# Altium integrated library Gennum Filter Highpass.IntLib: 5 symbols
Pins are listed as number, name and electrical type; pins without a type are passive.

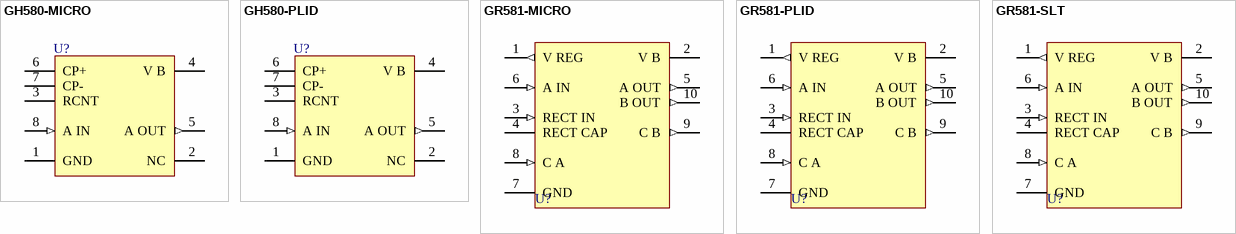
[diagram p0: symbols GH580-MICRO to GR581-SLT]

## GH580-MICRO
designator U?
Adjustable Analog Highpass Filter; Published: 8-Jun-2000; LatestRevisionDate: 04-Mar-2005; LatestRevisionNote: Stylized 3D Model Added.; DatasheetVersion: May-1998; PackageReference: MICRO8; Publisher: Altium Limited; PackageDescription: DFP; 8 Leads; Body 2.9 x 3.3 mm (LxW max); Pitch 0.635 mm; ComponentLink1Description: Manufacturer Link; ComponentLink1URL: http://www.gennum.com/index.html; ComponentLink2Description: Datasheet; ComponentLink2URL: http://www.gennum.com/hip/pdffiles/52050DOC.pdf
footprint MICRO8 (DFP; 8 Leads; Body 2.9 x 3.3 mm (LxW max); Pitch 0.635 mm)
3D model MICRO8 (DFP; 8 Leads; Body 2.9 x 3.3 mm (LxW max); Pitch 0.635 mm)
pins: 1 GND (power), 2 NC, 3 RCNT, 4 V B (power), 5 A OUT (out), 6 CP+, 7 CP-, 8 A IN (in)

## GH580-PLID
designator U?
Adjustable Analog Highpass Filter; Published: 8-Jun-2000; LatestRevisionDate: 17-Jul-2002; LatestRevisionNote: Re-released for DXP Platform.; DatasheetVersion: May-1998; PackageVersion: 1992; PackageReference: PLID8; Publisher: Altium Limited; PackageDescription: Small Outline; 8 C-Bend Leads; Body Width 3.2 mm; Pitch 0.635 mm; ComponentLink1Description: Manufacturer Link; ComponentLink1URL: http://www.gennum.com/index.html; ComponentLink2Description: Datasheet; ComponentLink2URL: http://www.gennum.com/hip/pdffiles/52050DOC.pdf
footprint PLID8 (Small Outline; 8 C-Bend Leads; Body Width 3.2 mm; Pitch 0.635 mm)
pins: 1 GND (power), 2 NC, 3 RCNT, 4 V B (power), 5 A OUT (out), 6 CP+, 7 CP-, 8 A IN (in)

## GR581-MICRO
designator U?
Adaptive Highpass Filter with Independent Gain Block; Published: 8-Jun-2000; LatestRevisionDate: 04-Mar-2005; LatestRevisionNote: Stylized 3D Model Added.; DatasheetVersion: Apr-1998; PackageReference: MICRO10; Publisher: Altium Limited; PackageDescription: DFP; 10 Leads; Body 3.6 x 3.3 mm (LxW max); Pitch 0.635 mm; ComponentLink1Description: Manufacturer Link; ComponentLink1URL: http://www.gennum.com/index.html; ComponentLink2Description: Datasheet; ComponentLink2URL: http://www.gennum.com/hip/pdffiles/52060DOC.pdf
footprint MICRO10 (DFP; 10 Leads; Body 3.6 x 3.3 mm (LxW max); Pitch 0.635 mm)
3D model MICRO10 (DFP; 10 Leads; Body 3.6 x 3.3 mm (LxW max); Pitch 0.635 mm)
pins: 1 V REG (out), 2 V B (power), 3 RECT IN (in), 4 RECT CAP, 5 A OUT (out), 6 A IN (in), 7 GND (power), 8 C A (in), 9 C B (out), 10 B OUT (out)

## GR581-PLID
designator U?
Adaptive Highpass Filter with Independent Gain Block; Published: 8-Jun-2000; LatestRevisionDate: 17-Jul-2002; LatestRevisionNote: Re-released for DXP Platform.; DatasheetVersion: Apr-1998; PackageVersion: 1992; PackageReference: PLID10; Publisher: Altium Limited; PackageDescription: Small Outline; 10 C-Bend Leads; Body Width 3.2 mm; Pitch 0.635 mm; ComponentLink1Description: Manufacturer Link; ComponentLink1URL: http://www.gennum.com/index.html; ComponentLink2Description: Datasheet; ComponentLink2URL: http://www.gennum.com/hip/pdffiles/52060DOC.pdf
footprint PLID10 (Small Outline; 10 C-Bend Leads; Body Width 3.2 mm; Pitch 0.635 mm)
pins: 1 V REG (out), 2 V B (power), 3 RECT IN (in), 4 RECT CAP, 5 A OUT (out), 6 A IN (in), 7 GND (power), 8 C A (in), 9 C B (out), 10 B OUT (out)

## GR581-SLT
designator U?
Adaptive Highpass Filter with Independent Gain Block; Published: 8-Jun-2000; LatestRevisionDate: 17-Jul-2002; LatestRevisionNote: Re-released for DXP Platform.; DatasheetVersion: Apr-1998; PackageReference: SLT10; Publisher: Altium Limited; PackageDescription: Shrink DIP; 10 Stub Leads; Row Spacing 2.28 mm; Pitch 0.5 mm; ComponentLink1Description: Manufacturer Link; ComponentLink1URL: http://www.gennum.com/index.html; ComponentLink2Description: Datasheet; ComponentLink2URL: http://www.gennum.com/hip/pdffiles/52060DOC.pdf
footprint SLT10 (Shrink DIP; 10 Stub Leads; Row Spacing 2.28 mm; Pitch 0.5 mm)
pins: 1 V REG (out), 2 V B (power), 3 RECT IN (in), 4 RECT CAP, 5 A OUT (out), 6 A IN (in), 7 GND (power), 8 C A (in), 9 C B (out), 10 B OUT (out)